# Altium footprint library LABLIB.PcbLib: 244 footprints (part 11 of 17)
Each footprint in its own frame and in the unit in brackets; x right, y up, seen from the top. Pads: shape width x height; smd on the part's side, far side on the other; paste and mask are expansions set on the pad; w line width, h text height; cw(c..) or ccw(c..) is an arc to the next point about the centre after c.
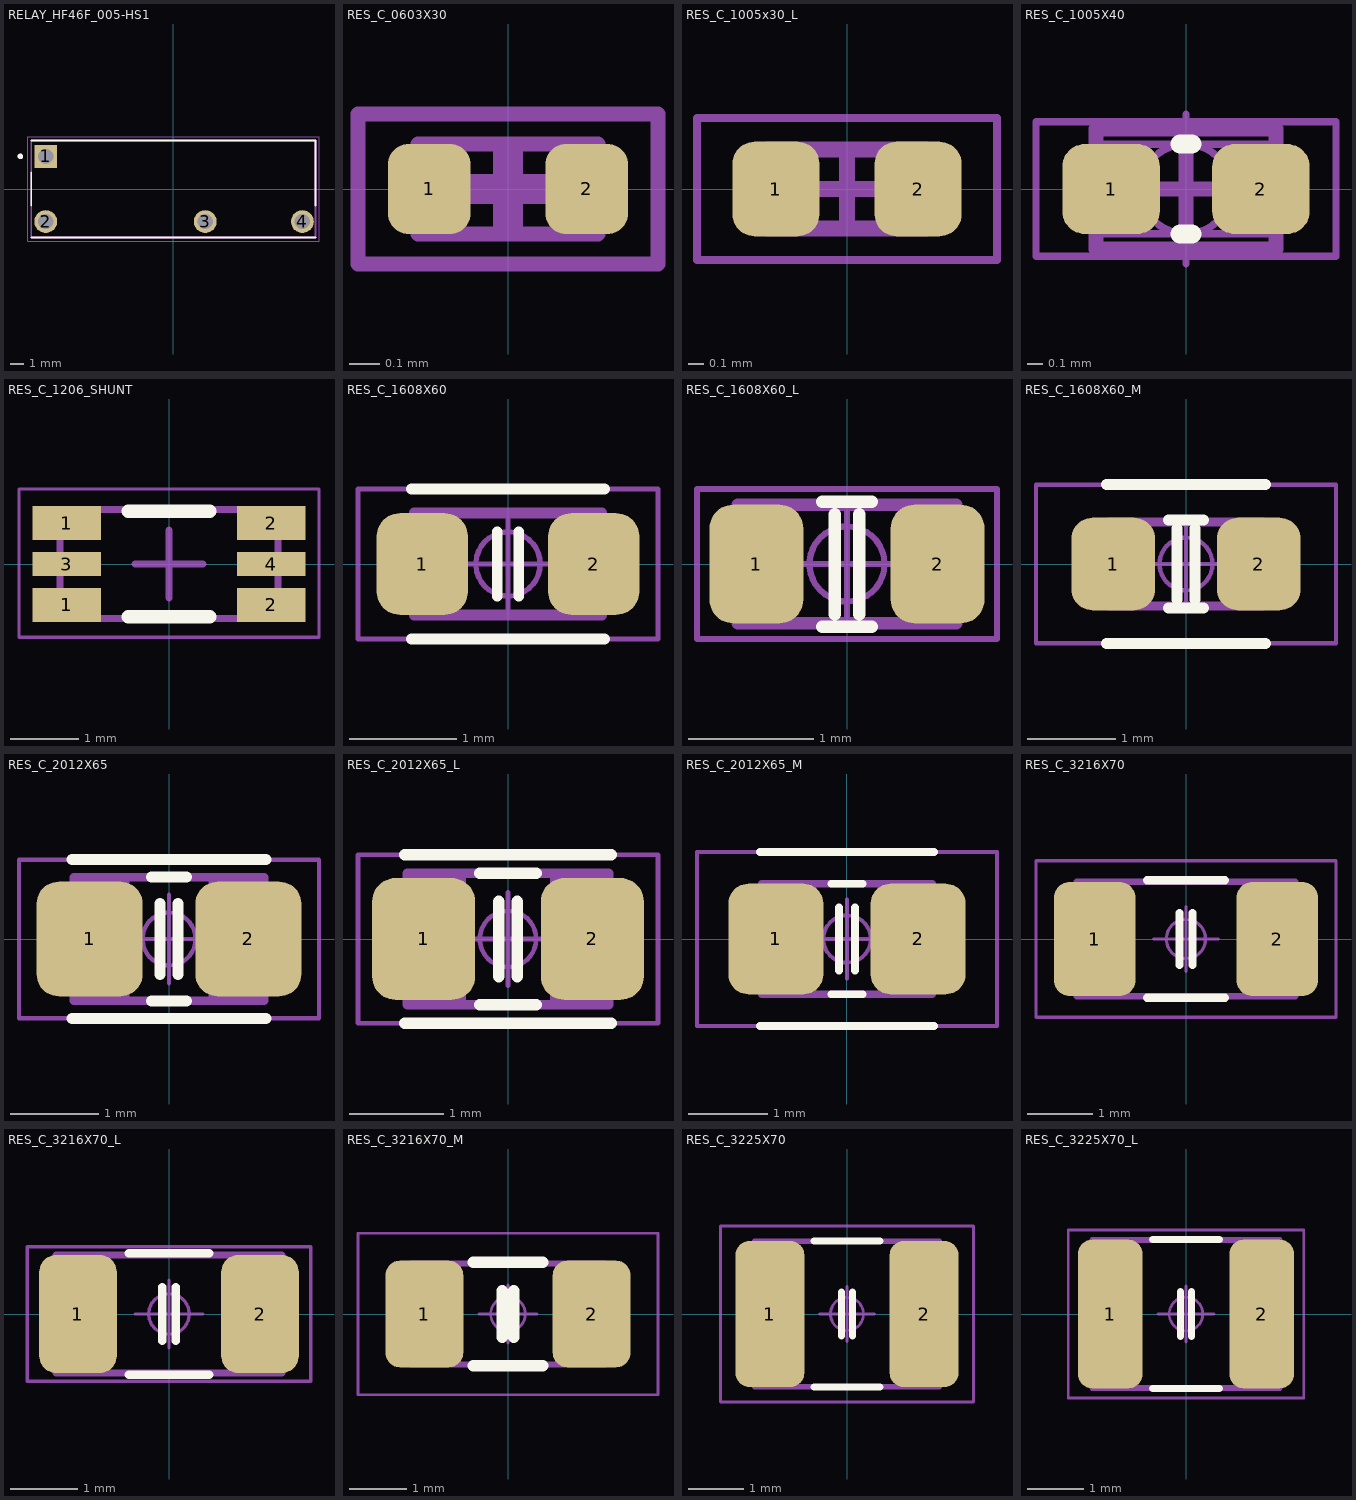
[diagram p10: the footprints below, top view; thin cyan lines are the x and y axes]

## RELAY_HF46F_005-HS1 [mm]
height 15.6
pads (4):
  rect 1.65x1.65 / inner round 1.65 / far side rect 1.65x1.65 hole 1.1: 1(-9.2,2.35)
  round 1.65 hole 1.1: 2(-9.2,-2.35) 3(2.3,-2.35) 4(9.3,-2.35)
Top Overlay:
  circle w0.2: c-11.025,2.35 r0.1
  lines w0.127: -10.25,-3.495 -10.25,-3.5 10.25,-3.5 10.25,-3.495 ; -10.25,-1.205 -10.25,1.205 ; -10.25,3.495 -10.25,3.5 10.25,3.5 10.25,-1.205
Mechanical 13:
  circle w0.2: c-11.025,2.35 r0.1
  lines w0.127: -10.25,-3.5 10.25,-3.5 10.25,3.5 -10.25,3.5 -10.25,-3.5
Mechanical 15:
  lines w0.05: -10.5,-3.75 10.5,-3.75 10.5,3.75 -10.5,3.75 -10.5,-3.75
3D body "step_temp.STEP": height 15.6, standoff -3.7, extent -10.25,-3.5 10.25,3.5

## RES_C_0603X30 [mm] "Chip Resistor, 2-Leads, Body 0.6x0.3mm, IPC Medium Density"
height 0.23
pads (2):
  rrect50% 0.275x0.3 smd mask+0.05: 1(-0.262,0) 2(0.262,0)
Top Assembly:
  lines w0.05: -0.3,-0.15 -0.3,0.15 0.3,0.15 0.3,-0.15 -0.3,-0.15
  text ".Designator" at -0.225,-0.05 h0.13
Top Courtyard:
  lines w0.05: -0.5,-0.25 0.5,-0.25 0.5,0.25 -0.5,0.25 -0.5,-0.25
  lines w0.1: -0.125,0 0.125,0 ; 0,-0.125 0,0.125
3D body "User Library-SMD RESISTOR-10201.STEP": height 0.22, standoff -0.01, extent -0.3,-0.15 0.3,0.15

## RES_C_1005x30_L [mm] "Chip Resistor, 2-Leads, Body 1.0x0.5mm, IPC Medium Density"
height 0.35
pads (2):
  rrect50% 0.55x0.6 smd mask+0.05: 1(-0.45,0) 2(0.45,0)
Top Assembly:
  lines w0.1: -0.5,-0.25 -0.5,0.25 0.5,0.25 0.5,-0.25 -0.5,-0.25
  text ".Designator" at -0.5,0 h0.3
Top Courtyard:
  lines w0.05: -0.95,-0.45 0.95,-0.45 0.95,0.45 -0.95,0.45 -0.95,-0.45
  lines w0.1: -0.25,0 0.25,0 ; 0,-0.25 0,0.25
Top 3D Body:
  lines w0.1: -0.5,-0.25 0.5,-0.25 0.5,0.25 -0.5,0.25 -0.5,-0.25
3D body "RES_0402.step": height 0.2, standoff 0, extent -0.5,-0.3 0.5,0.3

## RES_C_1005X40 [mm]
pads (2):
  rrect50% 0.65x0.6 smd mask+0.05: 1(-0.5,0) 2(0.5,0)
Top Overlay:
  lines w0.125: -0.04,-0.3 0.04,-0.3 ; -0.04,0.3 0.04,0.3
Top Assembly:
  lines w0.1: -0.6,-0.4 0.6,-0.4 0.6,0.4 -0.6,0.4 -0.6,-0.4
  text "'.Designator'" at -4.433,-0.827 h1.6
Top Courtyard:
  lines w0.05: -1,-0.45 -1,0.45 1,0.45 1,-0.45 -0.575,-0.45 -1,-0.45
  lines w0.1: -0.25,0 0.25,0 ; 0,-0.25 0,0.25
Top Component Outline:
  rectangle: -0.55,-0.3 -0.25,0.3
  rectangle: 0.25,-0.3 0.55,0.3
  lines w0.05: -0.55,-0.3 0.55,-0.3 0.55,0.3 -0.55,0.3 -0.55,-0.3
Top Component Center:
  circle w0.05: c0,0 r0.3
  lines w0.05: -0.5,0 0.5,0 ; 0,-0.5 0,0.5
3D body "RES_0402.step": height 0.2, standoff 0, extent -0.5,-0.3 0.5,0.3

## RES_C_1206_SHUNT [mm] "Chip Resistor, 2-Leads, Body 3.2x1.6mm, IPC Medium Density"
height 0.6
pads (6):
  rect 1x0.5 smd mask+0.1: 1(-1.5,-0.6) 1(-1.5,0.6) 2(1.5,-0.6) 2(1.5,0.6)
  rect 1x0.35 smd mask+0.1: 3(-1.5,0) 4(1.5,0)
Top Overlay:
  lines w0.2: -0.6,-0.775 0.6,-0.775 ; -0.6,0.775 0.6,0.775
Top Assembly:
  lines w0.1: -1.6,-0.8 1.6,-0.8 1.6,0.8 -1.6,0.8 -1.6,-0.8
  text ".Designator" at -0.975,-0.375 h0.75
Top Courtyard:
  lines w0.05: -2.2,-1.075 -2.2,1.1 2.2,1.1 2.2,-1.075 -2.2,-1.075
  lines w0.1: -0.5,0 0.5,0 ; 0,-0.5 0,0.5
Top 3D Body:
  lines w0.1: -1.6,-0.8 -1.6,0.8 1.6,0.8 1.6,-0.8 -1.6,-0.8
3D body "RES_1206.step": height 1, standoff 0, extent -1.6,-0.8 1.6,0.8

## RES_C_1608X60 [mm] "Chip Resistor, 2-Leads, Body 1.63x0.83mm, IPC High Density"
height 0.6
pads (2):
  rrect50% 0.85x0.95 smd: 1(-0.8,0) 2(0.8,0)
Top Overlay:
  lines w0.1: -0.9,-0.7 0.9,-0.7 ; -0.9,0.7 0.9,0.7 ; -0.1,-0.3 -0.1,0.3 ; 0.1,-0.3 0.1,0.3
Top Assembly:
  lines w0.1: -0.875,-0.475 -0.875,0.475 0.875,0.475 0.875,-0.475 -0.875,-0.475
  text "'.Designator'" at -4.217,-0.663 h1.6
Top Courtyard:
  lines w0.05: -1.4,-0.7 -1.4,0.7 1.4,0.7 1.4,-0.7 -1.4,-0.7
Top Component Outline:
  rectangle: -0.875,-0.475 -0.475,0.475
  rectangle: 0.475,-0.475 0.875,0.475
  lines w0.05: -0.875,-0.475 0.875,-0.475 0.875,0.475 -0.875,0.475 -0.875,-0.475
Top Component Center:
  circle w0.05: c0,0 r0.3
  lines w0.05: -0.5,0 0.5,0 ; 0,-0.5 0,0.5
3D body "RESC1608X60.step": height 0.6, standoff 0, extent -0.875,-0.475 0.875,0.475

## RES_C_1608X60_L [mm] "Chip Resistor, 2-Leads, Body 1.63x0.83mm, IPC High Density"
height 0.6
pads (2):
  rrect50% 0.75x0.95 smd: 1(-0.725,0) 2(0.725,0)
Top Overlay:
  lines w0.1: -0.2,-0.5 0.2,-0.5 ; -0.2,0.5 0.2,0.5 ; -0.1,-0.4 -0.1,0.4 ; 0.1,-0.4 0.1,0.4
Top Assembly:
  lines w0.1: -0.875,-0.475 0.875,-0.475 0.875,0.475 -0.875,0.475 -0.875,-0.475
  text "'.Designator'" at -4.217,-0.663 h1.6
Top Courtyard:
  lines w0.05: -1.2,-0.6 -1.2,0.6 1.2,0.6 1.2,-0.6 -1.2,-0.6
Top Component Outline:
  rectangle: 0.475,-0.475 0.875,0.475
  rectangle: -0.875,-0.475 -0.475,0.475
  lines w0.05: -0.875,-0.475 -0.875,0.475 0.875,0.475 0.875,-0.475 -0.875,-0.475
Top Component Center:
  circle w0.05: c0,0 r0.3
  lines w0.05: -0.5,0 0.5,0 ; 0,-0.5 0,0.5
3D body "RESC1608X60_L.step": height 0.6, standoff 0, extent -0.875,-0.475 0.875,0.475

## RES_C_1608X60_M [mm] "Chip Resistor, 2-Leads, Body 1.63x0.83mm, IPC High Density"
height 0.6
pads (2):
  rrect50% 0.95x1.05 smd: 1(-0.825,0) 2(0.825,0)
Top Overlay:
  lines w0.125: -0.9,-0.9 0.9,-0.9 ; -0.9,0.9 0.9,0.9 ; -0.2,-0.5 0.2,-0.5 ; -0.2,0.5 0.2,0.5 ; -0.1,-0.4 -0.1,0.4 ; 0.1,-0.4 0.1,0.4
Top Assembly:
  lines w0.1: -0.875,-0.475 -0.875,0.475 0.875,0.475 0.875,-0.475 -0.875,-0.475
  text "'.Designator'" at -4.217,-0.663 h1.6
Top Courtyard:
  lines w0.05: -1.7,-0.9 -1.7,0.9 1.7,0.9 1.7,-0.9 -1.7,-0.9
Top Component Outline:
  rectangle: 0.475,-0.475 0.875,0.475
  rectangle: -0.875,-0.475 -0.475,0.475
  lines w0.05: -0.875,-0.475 -0.875,0.475 0.875,0.475 0.875,-0.475 -0.875,-0.475
Top Component Center:
  circle w0.05: c0,0 r0.3
  lines w0.05: -0.5,0 0.5,0 ; 0,-0.5 0,0.5
3D body "RESC1608X60_M.step": height 0.6, standoff 0, extent -0.875,-0.475 0.875,0.475

## RES_C_2012X65 [mm] "Chip Resistor, 2-Leads, Body 2.00x1.25mm, IPC High Density"
height 0.65
pads (2):
  rrect41% 1.2x1.3 smd: 1(-0.9,0) 2(0.9,0)
Top Overlay:
  lines w0.125: -1.1,-0.9 1.1,-0.9 ; -1.1,0.9 1.1,0.9 ; -0.2,-0.7 0.2,-0.7 ; -0.2,0.7 0.2,0.7 ; -0.1,-0.4 -0.1,0.4 ; 0.1,-0.4 0.1,0.4
Top Assembly:
  lines w0.1: -1.075,-0.7 1.075,-0.7 1.075,0.7 -1.075,0.7 -1.075,-0.7
  text "'.Designator'" at -4.217,-0.663 h1.6
Top Courtyard:
  lines w0.05: -1.7,-0.9 1.7,-0.9 1.7,0.9 -1.7,0.9 -1.7,-0.9
Top Component Outline:
  rectangle: -1.1,-0.7 -0.45,0.7
  region: 1.1,0.7 0.45,0.7 0.45,-0.7 1.1,-0.7
  lines w0.05: -1.1,-0.7 -1.1,0.7 1.1,0.7 1.1,-0.7 -1.1,-0.7
Top Component Center:
  circle w0.05: c0,0 r0.3
  lines w0.05: -0.5,0 0.5,0 ; 0,-0.5 0,0.5
3D body "RESC2012X65.step": height 0.65, standoff 0, extent -1.075,-0.7 1.075,0.7

## RES_C_2012X65_L [mm] "Chip Resistor, 2-Leads, Body 2.00x1.25mm, IPC Medium Density"
height 0.65
pads (2):
  rrect45% 1.1x1.3 smd: 1(-0.9,0) 2(0.9,0)
Top Overlay:
  lines w0.125: -1.1,-0.9 1.1,-0.9 ; -1.1,0.9 1.1,0.9 ; -0.3,-0.7 0.3,-0.7 ; -0.3,0.7 0.3,0.7 ; -0.1,-0.4 -0.1,0.4 ; 0.1,-0.4 0.1,0.4
Top Assembly:
  lines w0.1: -1.075,-0.7 1.075,-0.7 1.075,0.7 -1.075,0.7 -1.075,-0.7
  text "'.Designator'" at -4.217,-0.663 h1.6
Top Courtyard:
  lines w0.05: -1.6,-0.9 1.6,-0.9 1.6,0.9 -1.6,0.9 -1.6,-0.9
Top Component Outline:
  region: 1.1,0.7 0.45,0.7 0.45,-0.7 1.1,-0.7
  rectangle: -1.1,-0.7 -0.45,0.7
  lines w0.05: -1.1,-0.7 1.1,-0.7 1.1,0.7 -1.1,0.7 -1.1,-0.7
Top Component Center:
  circle w0.05: c0,0 r0.3
  lines w0.05: -0.5,0 0.5,0 ; 0,-0.5 0,0.5
3D body "RESC2012X65_L.step": height 0.65, standoff 0, extent -1.075,-0.7 1.075,0.7

## RES_C_2012X65_M [mm] "Chip Resistor, 2-Leads, Body 2.00x1.25mm, IPC Medium Density"
height 0.65
pads (2):
  rrect41% 1.2x1.4 smd: 1(-0.9,0) 2(0.9,0)
Top Overlay:
  lines w0.1: -1.1,-1.1 1.1,-1.1 ; -1.1,1.1 1.1,1.1 ; -0.2,-0.7 0.2,-0.7 ; -0.2,0.7 0.2,0.7 ; -0.1,-0.4 -0.1,0.4 ; 0.1,-0.4 0.1,0.4
Top Assembly:
  lines w0.1: -1.075,-0.7 -1.075,0.7 1.075,0.7 1.075,-0.7 -1.075,-0.7
  text "'.Designator'" at -4.217,-0.663 h1.6
Top Courtyard:
  lines w0.05: -1.9,-1.1 1.9,-1.1 1.9,1.1 -1.9,1.1 -1.9,-1.1
Top Component Outline:
  rectangle: -1.075,-0.675 -0.425,0.725
  region: 1.075,0.7 0.425,0.7 0.425,-0.7 1.075,-0.7
  lines w0.05: -1.075,-0.7 -1.075,0.7 1.075,0.7 1.075,-0.7 -1.075,-0.7
Top Component Center:
  circle w0.05: c0,0 r0.3
  lines w0.05: -0.5,0 0.5,0 ; 0,-0.5 0,0.5
3D body "RESC2012X65_M.step": height 0.65, standoff 0, extent -1.075,-0.7 1.075,0.7

## RES_C_3216X70 [mm] "Chip Resistor, 2-Leads, Body 3.20x1.60mm, IPC Medium Density"
height 0.71
pads (2):
  rrect39% 1.25x1.75 smd: 1(-1.4,0) 2(1.4,0)
Top Overlay:
  lines w0.125: -0.6,-0.9 0.6,-0.9 ; -0.6,0.9 0.6,0.9 ; -0.1,-0.4 -0.1,0.4 ; 0.1,-0.4 0.1,0.4
Top Assembly:
  lines w0.1: -1.675,-0.875 -1.675,0.875 1.675,0.875 1.675,-0.875 -1.675,-0.875
  text "'.Designator'" at -4.217,-0.663 h1.6
Top Courtyard:
  lines w0.05: -2.3,-1.2 -2.3,1.2 2.3,1.2 2.3,-1.2 -2.3,-1.2
Top Component Outline:
  rectangle: -1.675,-0.875 -0.925,0.875
  region: 1.675,0.875 0.925,0.875 0.925,-0.875 1.675,-0.875
  lines w0.05: -1.675,-0.875 -1.675,0.875 1.675,0.875 1.675,-0.875 -1.675,-0.875
Top Component Center:
  circle w0.05: c0,0 r0.3
  lines w0.05: -0.5,0 0.5,0 ; 0,-0.5 0,0.5
3D body "RESC3216X70.step": height 0.71, standoff 0, extent -1.675,-0.875 1.675,0.875

## RES_C_3216X70_L [mm] "Chip Resistor, 2-Leads, Body 3.20x1.60mm, IPC Medium Density"
height 0.71
pads (2):
  rrect43% 1.15x1.75 smd: 1(-1.35,0) 2(1.35,0)
Top Overlay:
  lines w0.125: -0.6,-0.9 0.6,-0.9 ; -0.6,0.9 0.6,0.9 ; -0.1,-0.4 -0.1,0.4 ; 0.1,-0.4 0.1,0.4
Top Assembly:
  lines w0.1: -1.675,-0.875 -1.675,0.875 1.675,0.875 1.675,-0.875 -1.675,-0.875
  text "'.Designator'" at -4.217,-0.663 h1.6
Top Courtyard:
  lines w0.05: -2.1,-1 -2.1,1 2.1,1 2.1,-1 -2.1,-1
Top Component Outline:
  region: 1.675,0.875 0.925,0.875 0.925,-0.875 1.675,-0.875
  rectangle: -1.675,-0.875 -0.925,0.875
  lines w0.05: -1.675,-0.875 -1.675,0.875 1.675,0.875 1.675,-0.875 -1.675,-0.875
Top Component Center:
  circle w0.05: c0,0 r0.3
  lines w0.05: -0.5,0 0.5,0 ; 0,-0.5 0,0.5
3D body "RESC3216X070_L.step": height 0.71, standoff 0, extent -1.675,-0.875 1.675,0.875

## RES_C_3216X70_M [mm] "Chip Resistor, 2-Leads, Body 3.20x1.60mm, IPC Medium Density"
height 0.71
pads (2):
  rrect37% 1.35x1.85 smd: 1(-1.45,0) 2(1.45,0)
Top Overlay:
  lines w0.2: -0.6,-0.9 0.6,-0.9 ; -0.6,0.9 0.6,0.9 ; -0.1,-0.4 -0.1,0.4 ; 0.1,-0.4 0.1,0.4
Top Assembly:
  lines w0.1: -1.675,-0.875 -1.675,0.875 1.675,0.875 1.675,-0.875 -1.675,-0.875
  text "'.Designator'" at -4.217,-0.663 h1.6
Top Courtyard:
  lines w0.05: -2.6,-1.4 2.6,-1.4 2.6,1.4 -2.6,1.4 -2.6,-1.4
Top Component Outline:
  rectangle: -1.675,-0.875 -0.925,0.875
  region: 1.675,0.875 0.925,0.875 0.925,-0.875 1.675,-0.875
  lines w0.05: -1.675,-0.875 1.675,-0.875 1.675,0.875 -1.675,0.875 -1.675,-0.875
Top Component Center:
  circle w0.05: c0,0 r0.3
  lines w0.05: -0.5,0 0.5,0 ; 0,-0.5 0,0.5
3D body "RESC3216X70_M.step": height 0.71, standoff 0, extent -1.675,-0.875 1.675,0.875

## RES_C_3225X70 [mm] "Chip Resistor, 2-Leads, Body 3.20x2.49mm, IPC Medium Density"
height 0.71
pads (2):
  rrect39% 1.25x2.65 smd: 1(-1.4,0) 2(1.4,0)
Top Overlay:
  lines w0.125: -0.6,-1.325 0.6,-1.325 ; -0.6,1.325 0.6,1.325 ; -0.1,-0.4 -0.1,0.4 ; 0.1,-0.4 0.1,0.4
Top Assembly:
  lines w0.1: -1.675,-1.32 1.675,-1.32 1.675,1.32 -1.675,1.32 -1.675,-1.32
  text "'.Designator'" at -4.217,-0.663 h1.6
Top Courtyard:
  lines w0.05: -2.3,-1.6 2.3,-1.6 2.3,1.6 -2.3,1.6 -2.3,-1.6
Top Component Outline:
  region: 1.675,1.315 0.925,1.315 0.925,-1.325 1.675,-1.325
  rectangle: -1.675,-1.315 -0.925,1.325
  lines w0.05: -1.675,-1.325 -1.675,1.325 1.675,1.325 1.675,-1.325 -1.675,-1.325
Top Component Center:
  circle w0.05: c0,0 r0.3
  lines w0.05: -0.5,0 0.5,0 ; 0,-0.5 0,0.5
3D body "RESC3225X70.step": height 0.71, standoff 0, extent -1.675,-1.32 1.675,1.32

## RES_C_3225X70_L [mm] "Chip Resistor, 2-Leads, Body 3.20x2.49mm, IPC Medium Density"
height 0.71
pads (2):
  rrect43% 1.15x2.65 smd: 1(-1.35,0) 2(1.35,0)
Top Overlay:
  lines w0.125: -0.6,-1.325 0.6,-1.325 ; -0.6,1.325 0.6,1.325 ; -0.1,-0.4 -0.1,0.4 ; 0.1,-0.4 0.1,0.4
Top Assembly:
  lines w0.1: -1.675,-1.32 -1.675,1.32 1.675,1.32 1.675,-1.32 -1.675,-1.32
  text "'.Designator'" at -4.217,-0.663 h1.6
Top Courtyard:
  lines w0.05: -2.1,-1.5 -2.1,1.5 2.1,1.5 2.1,-1.5 -2.1,-1.5
Top Component Outline:
  region: 1.675,1.315 0.925,1.315 0.925,-1.325 1.675,-1.325
  rectangle: -1.675,-1.315 -0.925,1.325
  lines w0.05: -1.675,-1.325 -1.675,1.325 1.675,1.325 1.675,-1.325 -1.675,-1.325
Top Component Center:
  circle w0.05: c0,0 r0.3
  lines w0.05: -0.5,0 0.5,0 ; 0,-0.5 0,0.5
3D body "RESC3225X70_L.step": height 0.71, standoff 0, extent -1.675,-1.32 1.675,1.32